# Altium schematic symbol library LFTCXO073006CUTT.Schlib: 1 symbol
Pins are listed as number, name and electrical type; pins without a type are passive.

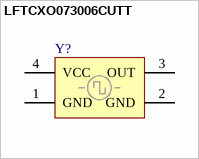
[diagram p0: symbol LFTCXO073006CUTT]

## LFTCXO073006CUTT
designator Y?
Oscillator
pins: 1 GND, 2 GND, 3 OUT, 4 VCC